# EAGLE library part MURATA_78253-55MVC (library 1A-meinLib)
MAX253 Compatible Converter Transformer, 5V, 200mA, 1W, 1:1.33, 4000VDC, Murata Power Solutions Lp=240uH, Ls=440uH, Ll=5.2uH, Cww=5.2pF, Rdc=0.4 Ohm, ET=28Vus
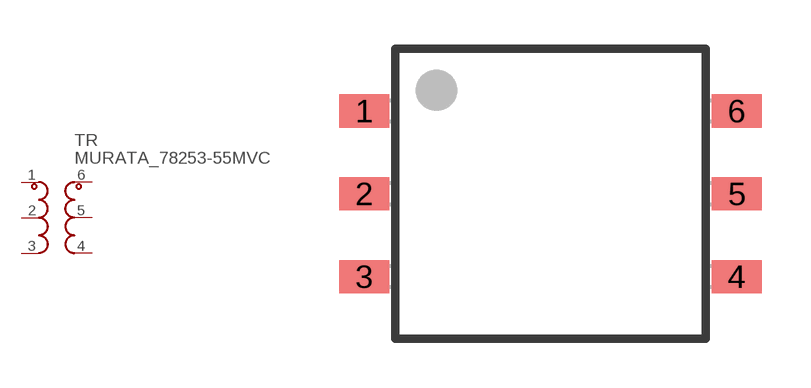
[diagram p370: symbol with the pads of MURATA-78253_SM; footprint MURATA-78253_SM]

Designator prefix TR

## MURATA_78253-55MVC  [MURATA-78253_SM]
1  P-DOT  pas
2  PC  pas
3  P  pas
4  S  pas
5  SC  pas
6  S-DOT  pas

## Footprint MURATA-78253_SM (pad centres in mm)
smd 1.524 x 1.016: 1 -5.715,2.54; 2 -5.715,0; 3 -5.715,-2.54; 4 5.715,-2.54; 5 5.715,0; 6 5.715,2.54